# EAGLE library part PINHD-2X5 (library pinhead-edge)
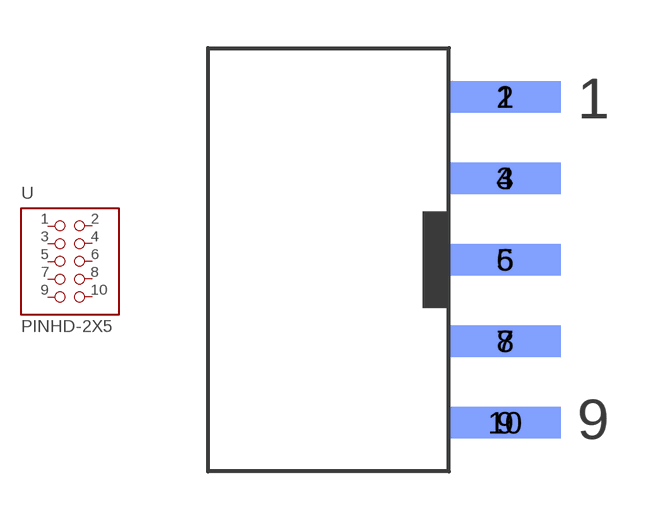
[diagram p0: symbol with the pads of 2X05; footprint 2X05]

Designator prefix -

## PINHD-2X5  [2X05]
1  1  pas
2  2  pas
3  3  pas
4  4  pas
5  5  pas
6  6  pas
7  7  pas
8  8  pas
9  9  pas
10  10  pas

## Footprint 2X05 (pad centres in mm)
smd 3.48 x 0.991: 1 5.56,5.33; 3 5.56,2.79; 5 5.56,0.25; 7 5.56,-2.29; 9 5.56,-4.83
smd 3.48 x 0.991 bottom: 2 5.56,5.33; 4 5.56,2.79; 6 5.56,0.25; 8 5.56,-2.29; 10 5.56,-4.83